# EAGLE library part DS10E (library switch-dil)
DIL/CODE SWITCH
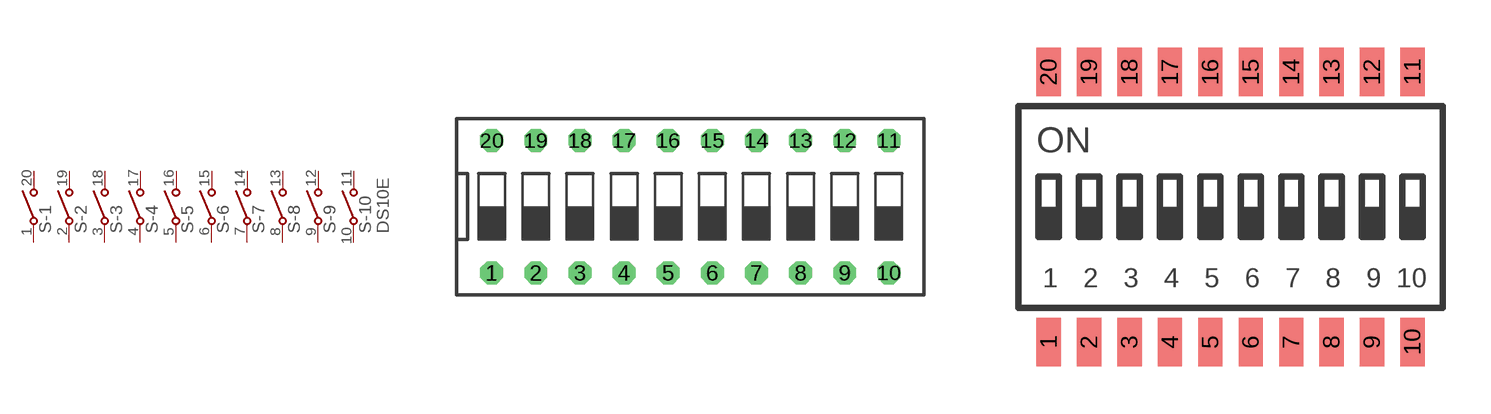
[diagram p16: symbol with the pads of DS-10; footprints DS-10, 218-10]

Designator prefix S; gates -1=S -2=S -3=S -4=S -5=S -6=S -7=S -8=S -9=S -10=S+V

## DS10E  [DS-10]
1  -1:1  pas
2  -2:1  pas
3  -3:1  pas
4  -4:1  pas
5  -5:1  pas
6  -6:1  pas
7  -7:1  pas
8  -8:1  pas
9  -9:1  pas
10  -10:1  pas
11  -10:2  pas
12  -9:2  pas
13  -8:2  pas
14  -7:2  pas
15  -6:2  pas
16  -5:2  pas
17  -4:2  pas
18  -3:2  pas
19  -2:2  pas
20  -1:2  pas

## DS10E-CT218-10  [218-10]
Pads as for DS-10

## DS10E-SDA10SK  [SDA10SK]
Pads as for DS-10

## DS10E-DA-10  [DA-10]
Pads as for DS-10

## Footprint DS-10 (pad centres in mm)
DIL/CODE SWITCH Mors distributor Buerklin, 17G566
drill 0.813 octagon: 1 -11.43,-3.81; 2 -8.89,-3.81; 3 -6.35,-3.81; 4 -3.81,-3.81; 5 -1.27,-3.81; 6 1.27,-3.81; 7 3.81,-3.81; 8 6.35,-3.81; 9 8.89,-3.81; 10 11.43,-3.81; 11 11.43,3.81; 12 8.89,3.81; 13 6.35,3.81; 14 3.81,3.81; 15 1.27,3.81; 16 -1.27,3.81; 17 -3.81,3.81; 18 -6.35,3.81; 19 -8.89,3.81; 20 -11.43,3.81

## Footprint 218-10 (pad centres in mm)
CTS SERIES 218LP - Gull Wing Terminal
smd 0.762 x 1.524: 1 -5.715,-4.245; 2 -4.445,-4.245; 3 -3.175,-4.245; 4 -1.905,-4.245; 5 -0.635,-4.245; 6 0.635,-4.245; 7 1.905,-4.245; 8 3.175,-4.245; 9 4.445,-4.245; 10 5.715,-4.245; 11 5.715,4.245; 12 4.445,4.245; 13 3.175,4.245; 14 1.905,4.245; 15 0.635,4.245; 16 -0.635,4.245; 17 -1.905,4.245; 18 -3.175,4.245; 19 -4.445,4.245; 20 -5.715,4.245

## Footprint SDA10SK (pad centres in mm)
C&K SDA Series
smd 1.397 x 2.032: 1 -11.43,-4.445; 2 -8.89,-4.445; 3 -6.35,-4.445; 4 -3.81,-4.445; 5 -1.27,-4.445; 6 1.27,-4.445; 7 3.81,-4.445; 8 6.35,-4.445; 9 8.89,-4.445; 10 11.43,-4.445; 11 11.43,4.445; 12 8.89,4.445; 13 6.35,4.445; 14 3.81,4.445; 15 1.27,4.445; 16 -1.27,4.445; 17 -3.81,4.445; 18 -6.35,4.445; 19 -8.89,4.445; 20 -11.43,4.445

## Footprint DA-10 (pad centres in mm)
DIL/CODE SWITCH Mors
drill 0.813 octagon: 1 -11.43,-1.27; 2 -8.89,-1.27; 3 -6.35,-1.27; 4 -3.81,-1.27; 5 -1.27,-1.27; 6 1.27,-1.27; 7 3.81,-1.27; 8 6.35,-1.27; 9 8.89,-1.27; 10 11.43,-1.27; 11 11.43,1.27; 12 8.89,1.27; 13 6.35,1.27; 14 3.81,1.27; 15 1.27,1.27; 16 -1.27,1.27; 17 -3.81,1.27; 18 -6.35,1.27; 19 -8.89,1.27; 20 -11.43,1.27